# EAGLE library part CBM_8374 (library u1200)
CBM 8374 "Alice"
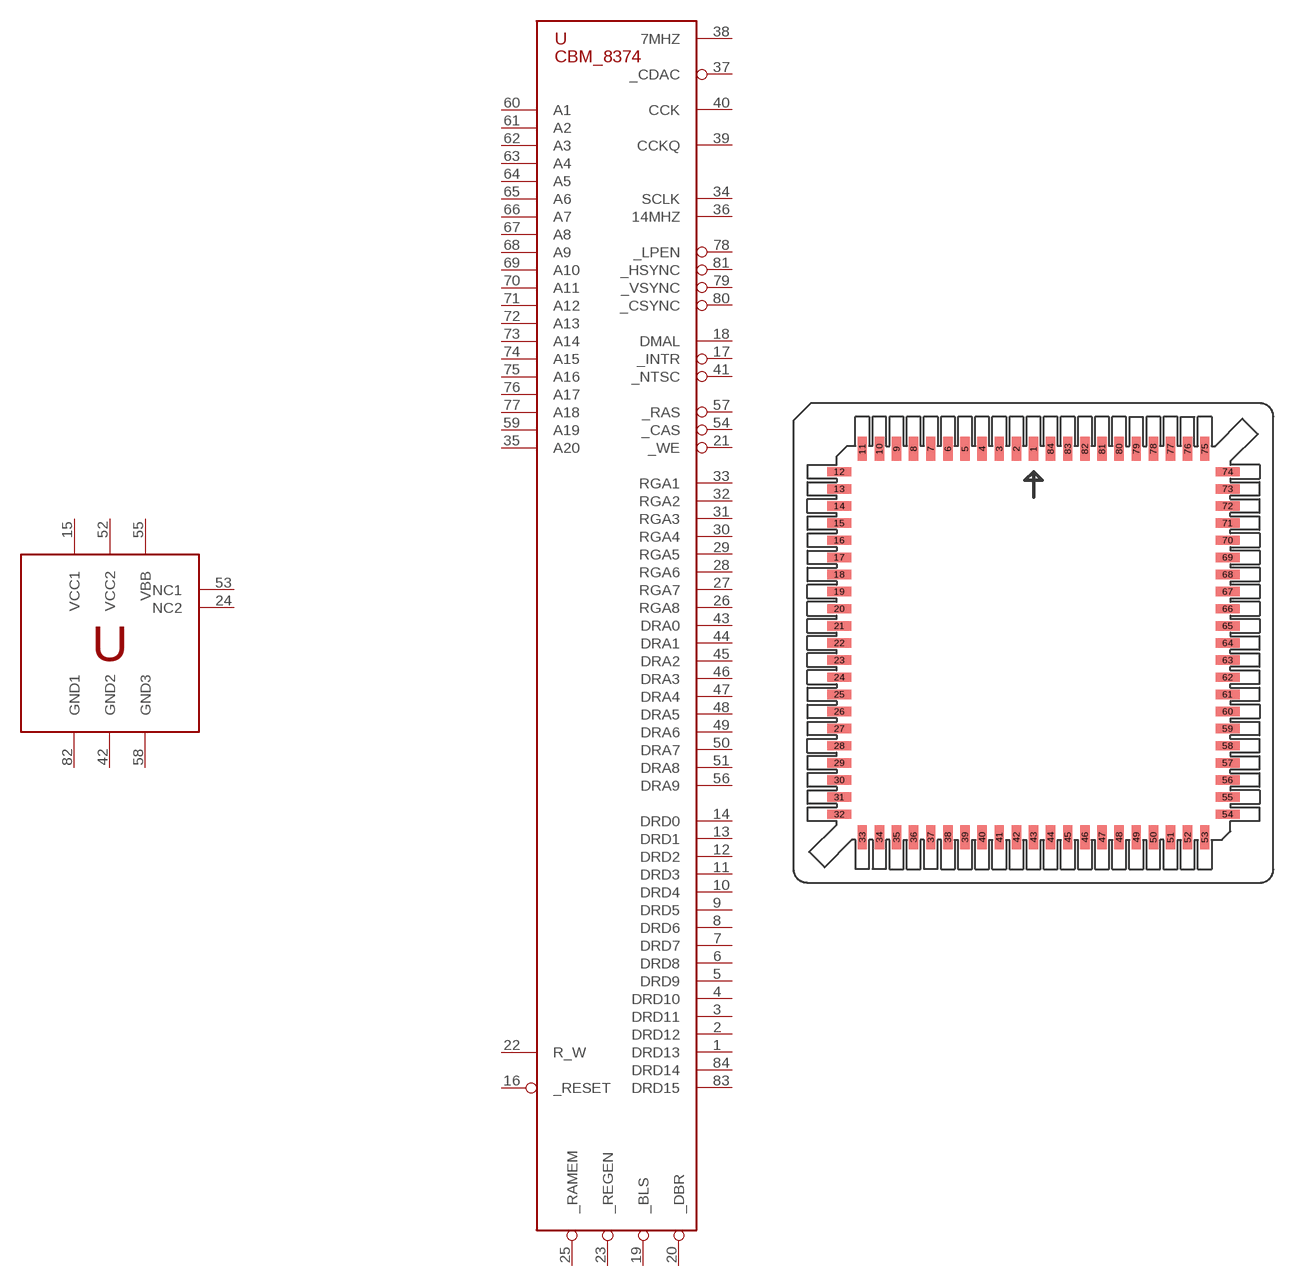
[diagram p1: symbol with the pads of PLCC84-SMD-AMP-SOCKED; footprint PLCC84-SMD-AMP-SOCKED]

Designator prefix -; gates G$1=CBM_8374 G$2=CBM_8374_VCC_GND

## CBM_8374  [PLCC84-SMD-AMP-SOCKED]
1  G$1:DRD13
2  G$1:DRD12
3  G$1:DRD11
4  G$1:DRD10
5  G$1:DRD9
6  G$1:DRD8
7  G$1:DRD7
8  G$1:DRD6
9  G$1:DRD5
10  G$1:DRD4
11  G$1:DRD3
12  G$1:DRD2
13  G$1:DRD1
14  G$1:DRD0
15  G$2:VCC1  pwr
16  G$1:_RESET
17  G$1:_INTR
18  G$1:DMAL
19  G$1:_BLS
20  G$1:_DBR
21  G$1:_WE
22  G$1:R_W
23  G$1:_REGEN
24  G$2:NC2
25  G$1:_RAMEM
26  G$1:RGA8
27  G$1:RGA7
28  G$1:RGA6
29  G$1:RGA5
30  G$1:RGA4
31  G$1:RGA3
32  G$1:RGA2
33  G$1:RGA1
34  G$1:SCLK
35  G$1:A20
36  G$1:14MHZ
37  G$1:_CDAC
38  G$1:7MHZ
39  G$1:CCKQ
40  G$1:CCK
41  G$1:_NTSC
42  G$2:GND2  pas
43  G$1:DRA0
44  G$1:DRA1
45  G$1:DRA2
46  G$1:DRA3
47  G$1:DRA4
48  G$1:DRA5
49  G$1:DRA6
50  G$1:DRA7
51  G$1:DRA8
52  G$2:VCC2  pwr
53  G$2:NC1
54  G$1:_CAS
55  G$2:VBB  pwr
56  G$1:DRA9
57  G$1:_RAS
58  G$2:GND3  pas
59  G$1:A19
60  G$1:A1
61  G$1:A2
62  G$1:A3
63  G$1:A4
64  G$1:A5
65  G$1:A6
66  G$1:A7
67  G$1:A8
68  G$1:A9
69  G$1:A10
70  G$1:A11
71  G$1:A12
72  G$1:A13
73  G$1:A14
74  G$1:A15
75  G$1:A16
76  G$1:A17
77  G$1:A18
78  G$1:_LPEN
79  G$1:_VSYNC
80  G$1:_CSYNC
81  G$1:_HSYNC
82  G$2:GND1  pas
83  G$1:DRD15
84  G$1:DRD14

## Footprint PLCC84-SMD-AMP-SOCKED (pad centres in mm)
PLCC Surface Mount 84 Position AMP 822472-7 Source: http://ecommas.tycoelectronics.com/ ...ENG_CD_822472_E.pdf
smd 0.7 x 1.78: 1 0,14.4; 2 -1.27,14.4; 3 -2.54,14.4; 4 -3.81,14.4; 5 -5.08,14.4; 6 -6.35,14.4; 7 -7.62,14.4; 8 -8.89,14.4; 9 -10.16,14.4; 10 -11.43,14.4; 11 -12.7,14.4; 33 -12.7,-14.4; 34 -11.43,-14.4; 35 -10.16,-14.4; 36 -8.89,-14.4; 37 -7.62,-14.4; 38 -6.35,-14.4; 39 -5.08,-14.4; 40 -3.81,-14.4; 41 -2.54,-14.4; 42 -1.27,-14.4; 43 0,-14.4; 44 1.27,-14.4; 45 2.54,-14.4; 46 3.81,-14.4; 47 5.08,-14.4; 48 6.35,-14.4; 49 7.62,-14.4; 50 8.89,-14.4; 51 10.16,-14.4; 52 11.43,-14.4; 53 12.7,-14.4; 75 12.7,14.4; 76 11.43,14.4; 77 10.16,14.4; 78 8.89,14.4; 79 7.62,14.4; 80 6.35,14.4; 81 5.08,14.4; 82 3.81,14.4; 83 2.54,14.4; 84 1.27,14.4
smd 1.78 x 0.7: 12 -14.4,12.7; 13 -14.4,11.43; 14 -14.4,10.16; 15 -14.4,8.89; 16 -14.4,7.62; 17 -14.4,6.35; 18 -14.4,5.08; 19 -14.4,3.81; 20 -14.4,2.54; 21 -14.4,1.27; 22 -14.4,0; 23 -14.4,-1.27; 24 -14.4,-2.54; 25 -14.4,-3.81; 26 -14.4,-5.08; 27 -14.4,-6.35; 28 -14.4,-7.62; 29 -14.4,-8.89; 30 -14.4,-10.16; 31 -14.4,-11.43; 32 -14.4,-12.7; 54 14.4,-12.7; 55 14.4,-11.43; 56 14.4,-10.16; 57 14.4,-8.89; 58 14.4,-7.62; 59 14.4,-6.35; 60 14.4,-5.08; 61 14.4,-3.81; 62 14.4,-2.54; 63 14.4,-1.27; 64 14.4,0; 65 14.4,1.27; 66 14.4,2.54; 67 14.4,3.81; 68 14.4,5.08; 69 14.4,6.35; 70 14.4,7.62; 71 14.4,8.89; 72 14.4,10.16; 73 14.4,11.43; 74 14.4,12.7